# EAGLE library part LM3.5/7/90 (library con-weidmueller-350)
LM3.5/7/90
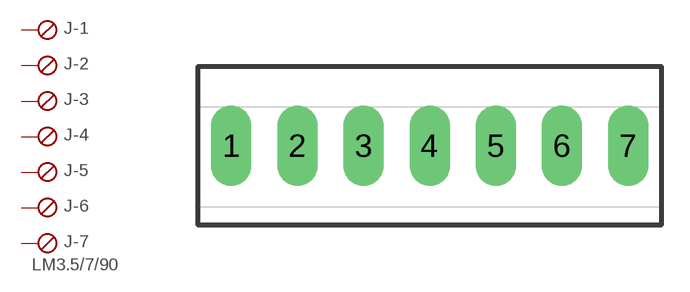
[diagram p2: symbol with the pads of LM-07; footprint LM-07]

Designator prefix J; gates -1=SKB -2=SKB -3=SKB -4=SKB -5=SKB -6=SKB -7=SKBU+V

## LM3.5/7/90  [LM-07]
1  -1:S  pas
2  -2:S  pas
3  -3:S  pas
4  -4:S  pas
5  -5:S  pas
6  -6:S  pas
7  -7:S  pas

## Footprint LM-07 (pad centres in mm)
LM 3.5/7/90
drill 1.422 long: 1 -10.5,0; 2 -7,0; 3 -3.5,0; 4 0,0; 5 3.5,0; 6 7,0; 7 10.5,0